# EAGLE library part MIMAS_A7_MINI (library EIT_Recorder)
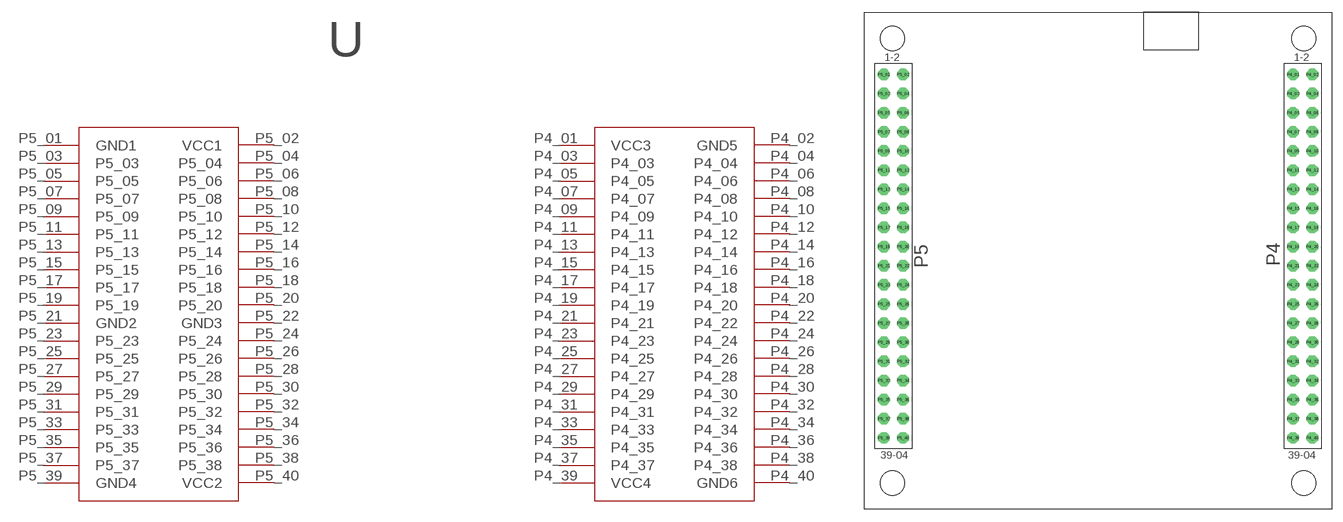
[diagram p9: symbol with the pads of MIMAS_A7_MINI; footprint MIMAS_A7_MINI]

Designator prefix -

## MIMAS_A7_MINI  [MIMAS_A7_MINI]
P4_01  VCC3  pwr
P4_02  GND5  pas
P4_03  P4_03
P4_04  P4_04
P4_05  P4_05
P4_06  P4_06
P4_07  P4_07
P4_08  P4_08
P4_09  P4_09
P4_10  P4_10
P4_11  P4_11
P4_12  P4_12
P4_13  P4_13
P4_14  P4_14
P4_15  P4_15
P4_16  P4_16
P4_17  P4_17
P4_18  P4_18
P4_19  P4_19
P4_20  P4_20
P4_21  P4_21
P4_22  P4_22
P4_23  P4_23
P4_24  P4_24
P4_25  P4_25
P4_26  P4_26
P4_27  P4_27
P4_28  P4_28
P4_29  P4_29
P4_30  P4_30
P4_31  P4_31
P4_32  P4_32
P4_33  P4_33
P4_34  P4_34
P4_35  P4_35
P4_36  P4_36
P4_37  P4_37
P4_38  P4_38
P4_39  VCC4  pwr
P4_40  GND6  pas
P5_01  GND1  pas
P5_02  VCC1  pwr
P5_03  P5_03
P5_04  P5_04
P5_05  P5_05
P5_06  P5_06
P5_07  P5_07
P5_08  P5_08
P5_09  P5_09
P5_10  P5_10
P5_11  P5_11
P5_12  P5_12
P5_13  P5_13
P5_14  P5_14
P5_15  P5_15
P5_16  P5_16
P5_17  P5_17
P5_18  P5_18
P5_19  P5_19
P5_20  P5_20
P5_21  GND2  pas
P5_22  GND3  pas
P5_23  P5_23
P5_24  P5_24
P5_25  P5_25
P5_26  P5_26
P5_27  P5_27
P5_28  P5_28
P5_29  P5_29
P5_30  P5_30
P5_31  P5_31
P5_32  P5_32
P5_33  P5_33
P5_34  P5_34
P5_35  P5_35
P5_36  P5_36
P5_37  P5_37
P5_38  P5_38
P5_39  GND4  pas
P5_40  VCC2  pwr

## Footprint MIMAS_A7_MINI (pad centres in mm)
drill 1.016 octagon: P4_01 29.65,26.42; P4_02 32.19,26.42; P4_03 29.65,23.88; P4_04 32.19,23.88; P4_05 29.65,21.34; P4_06 32.19,21.34; P4_07 29.65,18.8; P4_08 32.19,18.8; P4_09 29.65,16.26; P4_10 32.19,16.26; P4_11 29.65,13.72; P4_12 32.19,13.72; P4_13 29.65,11.18; P4_14 32.19,11.18; P4_15 29.65,8.64; P4_16 32.19,8.64; P4_17 29.65,6.1; P4_18 32.19,6.1; P4_19 29.65,3.56; P4_20 32.19,3.56; P4_21 29.65,1.02; P4_22 32.19,1.02; P4_23 29.65,-1.52; P4_24 32.19,-1.52; P4_25 29.65,-4.06; P4_26 32.19,-4.06; P4_27 29.65,-6.6; P4_28 32.19,-6.6; P4_29 29.65,-9.14; P4_30 32.19,-9.14; P4_31 29.65,-11.68; P4_32 32.19,-11.68; P4_33 29.65,-14.22; P4_34 32.19,-14.22; P4_35 29.65,-16.76; P4_36 32.19,-16.76; P4_37 29.65,-19.3; P4_38 32.19,-19.3; P4_39 29.65,-21.84; P4_40 32.19,-21.84; P5_01 -24.68,26.42; P5_02 -22.14,26.42; P5_03 -24.68,23.88; P5_04 -22.14,23.88; P5_05 -24.68,21.34; P5_06 -22.14,21.34; P5_07 -24.68,18.8; P5_08 -22.14,18.8; P5_09 -24.68,16.26; P5_10 -22.14,16.26; P5_11 -24.68,13.72; P5_12 -22.14,13.72; P5_13 -24.68,11.18; P5_14 -22.14,11.18; P5_15 -24.68,8.64; P5_16 -22.14,8.64; P5_17 -24.68,6.1; P5_18 -22.14,6.1; P5_19 -24.68,3.56; P5_20 -22.14,3.56; P5_21 -24.68,1.02; P5_22 -22.14,1.02; P5_23 -24.68,-1.52; P5_24 -22.14,-1.52; P5_25 -24.68,-4.06; P5_26 -22.14,-4.06; P5_27 -24.68,-6.6; P5_28 -22.14,-6.6; P5_29 -24.68,-9.14; P5_30 -22.14,-9.14; P5_31 -24.68,-11.68; P5_32 -22.14,-11.68; P5_33 -24.68,-14.22; P5_34 -22.14,-14.22; P5_35 -24.68,-16.76; P5_36 -22.14,-16.76; P5_37 -24.68,-19.3; P5_38 -22.14,-19.3; P5_39 -24.68,-21.84; P5_40 -22.14,-21.84